# EAGLE library part PCA9539PW,118 (library PCA9539PW_118)
16-bit I2C-bus and SMBus low power I/O port with interrupt and reset Source: Datasheet <http://www.nxp.com/docs/en/data-sheet/PCA9539_PCA9539R.pdf>
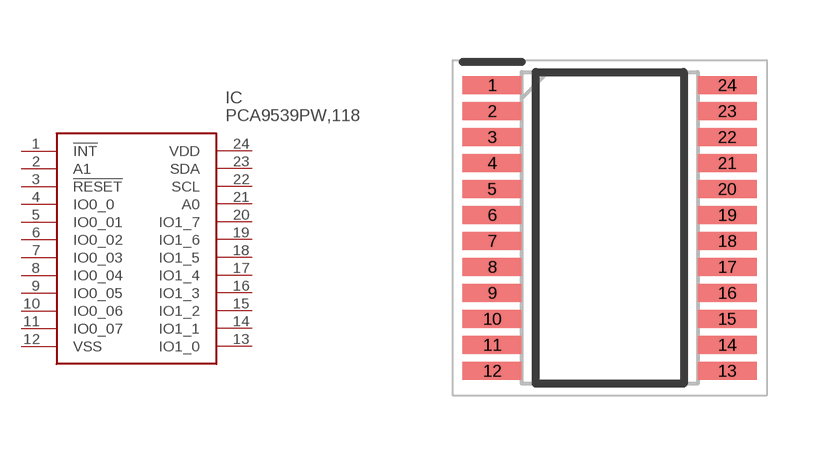
[diagram p0: symbol with the pads of SOP65P640X110-24N; footprint SOP65P640X110-24N]

Designator prefix IC

## PCA9539PW,118 (Arrow_Part_Number: PCA9539PW,118; Arrow_Price-Stock: https://www.arrow.com/en/products/pca9539pw118/nxp-semiconductors; Description: 16-bit I2C-bus and SMBus low power I/O port with interrupt and reset; Height: 1.1mm; Manufacturer_Name: NXP; Manufacturer_Part_Number: PCA9539PW,118; Mouser_Part_Number: 771-PCA9539PW-T; Mouser_Price-Stock: https://www.mouser.co.uk/ProductDetail/NXP-Semiconductors/PCA9539PW118?qs=LOCUfHb8d9tPW%252BCH%252Bhc6uw%3D%3D)  [SOP65P640X110-24N]
1  !INT
2  A1
3  !RESET
4  IO0_0
5  IO0_01
6  IO0_02
7  IO0_03
8  IO0_04
9  IO0_05
10  IO0_06
11  IO0_07
12  VSS
13  IO1_0
14  IO1_1
15  IO1_2
16  IO1_3
17  IO1_4
18  IO1_5
19  IO1_6
20  IO1_7
21  A0
22  SCL
23  SDA
24  VDD

## Footprint SOP65P640X110-24N (pad centres in mm)
TSSOP24
smd 1.475 x 0.45: 1 -2.938,3.575; 2 -2.938,2.925; 3 -2.938,2.275; 4 -2.938,1.625; 5 -2.938,0.975; 6 -2.938,0.325; 7 -2.938,-0.325; 8 -2.938,-0.975; 9 -2.938,-1.625; 10 -2.938,-2.275; 11 -2.938,-2.925; 12 -2.938,-3.575; 13 2.938,-3.575; 14 2.938,-2.925; 15 2.938,-2.275; 16 2.938,-1.625; 17 2.938,-0.975; 18 2.938,-0.325; 19 2.938,0.325; 20 2.938,0.975; 21 2.938,1.625; 22 2.938,2.275; 23 2.938,2.925; 24 2.938,3.575